# EAGLE library part CC1312R1F3RGZT (library Microcontroller)
WIRELESS COMMUNICATION Manufacturer's datasheet <http://www.ti.com/lit/ds/symlink/cc1312r.pdf>
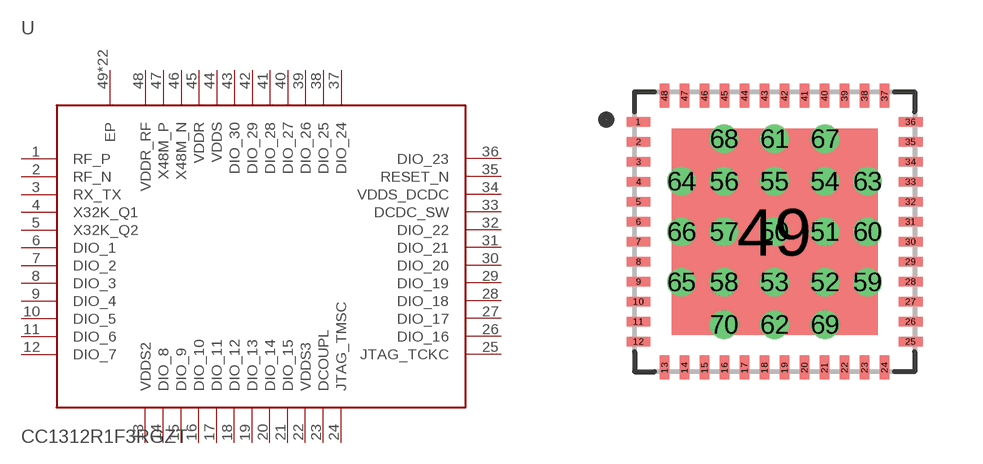
[diagram p0: symbol with the pads of 48-VFQFN; footprint 48-VFQFN]

Designator prefix U

## CC1312R1F3RGZT (CREATED_BY: PCBLayout.com; DIGIKEY_PART_NUMBER: 296-CC1312R1F3RGZTTR-ND; MANUFACTURER: Texas Instruments; MPN: CC1312R1F3RGZT; PACKAGE: 48-VFQFN)  [48-VFQFN]
1  RF_P  in
2  RF_N  in
3  RX_TX
4  X32K_Q1
5  X32K_Q2
6  DIO_1
7  DIO_2
8  DIO_3
9  DIO_4
10  DIO_5
11  DIO_6
12  DIO_7
13  VDDS2  pwr
14  DIO_8
15  DIO_9
16  DIO_10
17  DIO_11
18  DIO_12
19  DIO_13
20  DIO_14
21  DIO_15
22  VDDS3  pwr
23  DCOUPL  pwr
24  JTAG_TMSC
25  JTAG_TCKC  in
26  DIO_16
27  DIO_17
28  DIO_18
29  DIO_19
30  DIO_20
31  DIO_21
32  DIO_22
33  DCDC_SW  pwr
34  VDDS_DCDC  pwr
35  RESET_N  in
36  DIO_23
37  DIO_24
38  DIO_25
39  DIO_26
40  DIO_27
41  DIO_28
42  DIO_29
43  DIO_30
44  VDDS  pwr
45  VDDR  pwr
46  X48M_N
47  X48M_P
48  VDDR_RF  pwr
49  EP  pwr
50  EP  pwr
51  EP  pwr
52  EP  pwr
53  EP  pwr
54  EP  pwr
55  EP  pwr
56  EP  pwr
57  EP  pwr
58  EP  pwr
59  EP  pwr
60  EP  pwr
61  EP  pwr
62  EP  pwr
63  EP  pwr
64  EP  pwr
65  EP  pwr
66  EP  pwr
67  EP  pwr
68  EP  pwr
69  EP  pwr
70  EP  pwr

## Footprint 48-VFQFN (pad centres in mm)
smd 0.6 x 0.24: 1 -3.4,2.75; 2 -3.4,2.25; 3 -3.4,1.75; 4 -3.4,1.25; 5 -3.4,0.75; 6 -3.4,0.25; 7 -3.4,-0.25; 8 -3.4,-0.75; 9 -3.4,-1.25; 10 -3.4,-1.75; 11 -3.4,-2.25; 12 -3.4,-2.75; 25 3.4,-2.75; 26 3.4,-2.25; 27 3.4,-1.75; 28 3.4,-1.25; 29 3.4,-0.75; 30 3.4,-0.25; 31 3.4,0.25; 32 3.4,0.75; 33 3.4,1.25; 34 3.4,1.75; 35 3.4,2.25; 36 3.4,2.75
smd 0.24 x 0.6: 13 -2.75,-3.4; 14 -2.25,-3.4; 15 -1.75,-3.4; 16 -1.25,-3.4; 17 -0.75,-3.4; 18 -0.25,-3.4; 19 0.25,-3.4; 20 0.75,-3.4; 21 1.25,-3.4; 22 1.75,-3.4; 23 2.25,-3.4; 24 2.75,-3.4; 37 2.75,3.4; 38 2.25,3.4; 39 1.75,3.4; 40 1.25,3.4; 41 0.75,3.4; 42 0.25,3.4; 43 -0.25,3.4; 44 -0.75,3.4; 45 -1.25,3.4; 46 -1.75,3.4; 47 -2.25,3.4; 48 -2.75,3.4
smd 5.15 x 5.15: 49 0,0
drill 0.2 pad 0.4: 50 0,0; 51 1.26,0; 52 1.26,-1.26; 53 0,-1.26; 54 1.26,1.26; 55 0,1.26; 56 -1.26,1.26; 57 -1.26,0; 58 -1.26,-1.26; 59 2.325,-1.26; 60 2.325,0; 61 0,2.325; 62 0,-2.325; 63 2.325,1.26; 64 -2.325,1.26; 65 -2.325,-1.26; 66 -2.325,0; 67 1.26,2.325; 68 -1.26,2.325; 69 1.26,-2.325; 70 -1.26,-2.325